# Altium schematic symbol library IRM-05-5.SchLib: 1 symbol
Pins are listed as number, name and electrical type; pins without a type are passive.

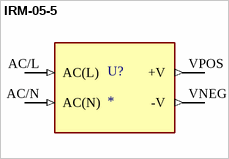
[diagram p0: symbol IRM-05-5]

## IRM-05-5
designator U?
AC-DC Single output Encapsulated power supply; Output 5Vdc at 1.0A; PCB mount, miniature size; MP: IRM-05-5; MF: {'manufacturer': u'MEAN WELL'}; Package: None; Price: None; Value: *; Availability: Unavailable
footprint CONV_IRM-05-5
pins: AC/L AC(L) (in), AC/N AC(N) (in), VNEG -V (out), VPOS +V (out)